# EAGLE library part 600DP1S2M2Q (library FCC_parts)
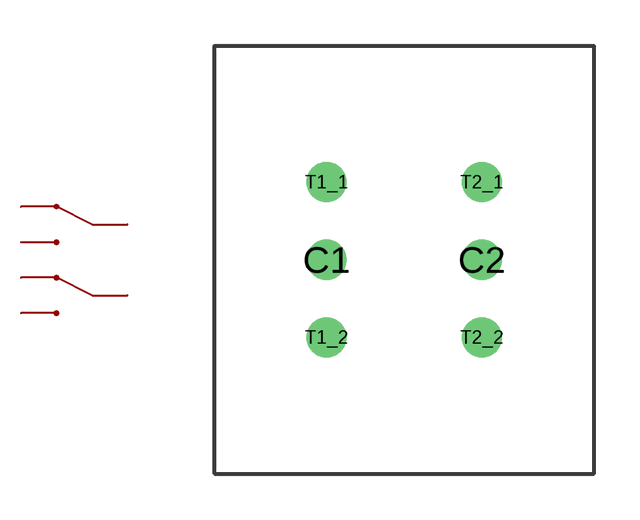
[diagram p13: symbol with the pads of 600DP1S2M2Q; footprint 600DP1S2M2Q]

Designator prefix -

## 600DP1S2M2Q  [600DP1S2M2Q]
C1  1_COMM
C2  2_COMM
T1_1  1_T1
T1_2  2_T1
T2_1  1_T2
T2_2  2_T2

## Footprint 600DP1S2M2Q (pad centres in mm)
drill 0.8: C1 -2.54,0; C2 2.54,0; T1_1 -2.54,2.54; T1_2 -2.54,-2.54; T2_1 2.54,2.54; T2_2 2.54,-2.54